# EAGLE library part TS3A44159 (library ds_ic_peripherals)
0.45-Ω Quad SPDT Analog Switch 4-Channel 2:1 Multiplexer – Demultiplexer With Two Controls
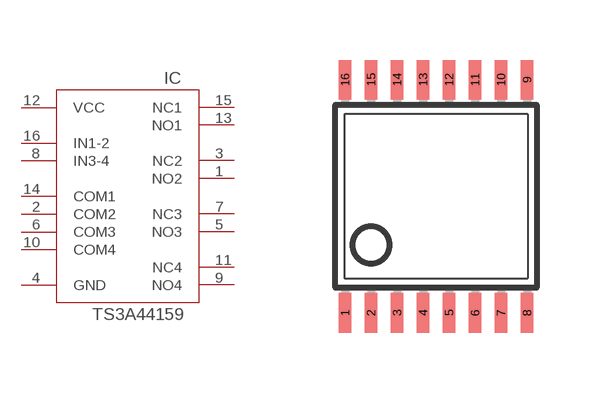
[diagram p3: symbol with the pads of TSSOP16; footprint TSSOP16]

Designator prefix IC

## TS3A44159  [TSSOP16]
1  NO2
2  COM2
3  NC2
4  GND
5  NO3
6  COM3
7  NC3
8  IN3-4
9  NO4
10  COM4
11  NC4
12  VCC
13  NO1
14  COM1
15  NC1
16  IN1-2

## Footprint TSSOP16 (pad centres in mm)
Thin Shrink Small Outline Plastic 16 MAX3223-MAX3243.pdf
smd 0.305 x 0.991: 1 -2.275,-2.918; 2 -1.625,-2.918; 3 -0.975,-2.918; 4 -0.325,-2.918; 5 0.325,-2.918; 6 0.975,-2.918; 7 1.625,-2.918; 8 2.275,-2.918; 9 2.275,2.918; 10 1.625,2.918; 11 0.975,2.918; 12 0.325,2.918; 13 -0.325,2.918; 14 -0.975,2.918; 15 -1.625,2.918; 16 -2.275,2.918